# Altium schematic symbol library lib.SchLib: 4 symbols
Pins are listed as number, name and electrical type; pins without a type are passive.

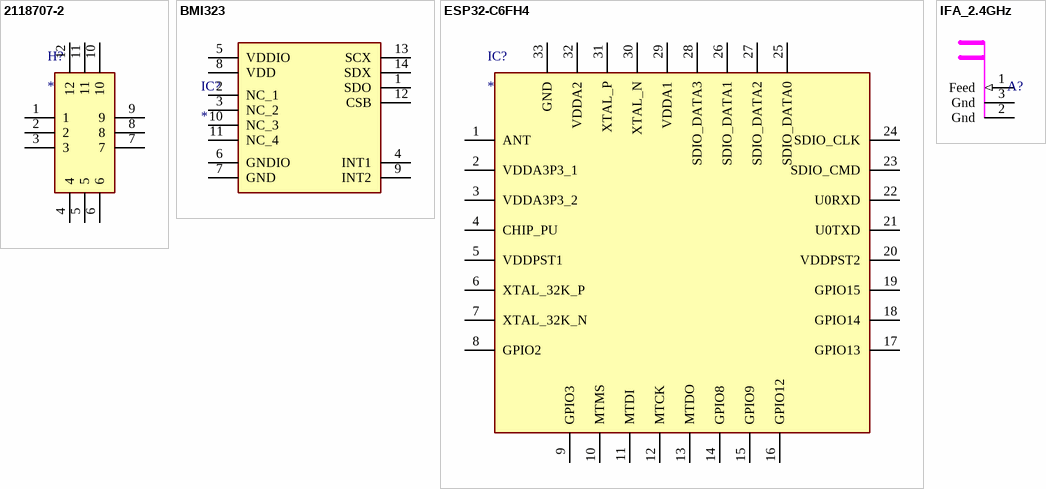
[diagram p0: symbols 2118707-2 to IFA_2.4GHz]

## 2118707-2
designator H?
Hardware; Manufacturer_Name: TE Connectivity; Manufacturer_Part_Number: 2118707-2; Datasheet Link: https://www.te.com/commerce/DocumentDelivery/DDEController?Action=srchrtrv&DocNm=2118707&DocType=Customer+Drawing&DocLang=English; Height: 3.6mm; Mouser Part Number: 571-2118707-2; Mouser Price/Stock: https://www.mouser.co.uk/ProductDetail/TE-Connectivity/2118707-2?qs=u4fy%2FsgLU9NoXZXtwsPxvA%3D%3D; Arrow Part Number: 2118707-2; Arrow Price/Stock: https://www.arrow.com/en/products/2118707-2/te-connectivity?region=nac
footprint 21187072
pins: 1, 2, 3, 4, 5, 6, 7, 8, 9, 10, 11, 12

## BMI323
designator IC?
Integrated Circuit; Manufacturer_Name: BOSCH; Manufacturer_Part_Number: BMI323; Description: 3.0 SHUTTLE BOARD DEV KIT BMI323; Datasheet Link: https://www.bosch-sensortec.com/media/boschsensortec/downloads/datasheets/bst-bmi323-ds000.pdf; Height: 0.87mm; Mouser Part Number: 262-BMI323; Mouser Price/Stock: https://www.mouser.co.uk/ProductDetail/Bosch-Sensortec/BMI323?qs=By6Nw2ByBD3%2FE1v0UqNQPQ%3D%3D; Arrow Part Number: BMI323; Arrow Price/Stock: https://www.arrow.com/en/products/bmi323/bosch?region=nac
footprint BMI323
pins: 1 SDO, 2 NC_1, 3 NC_2, 4 INT1, 5 VDDIO, 6 GNDIO, 7 GND, 8 VDD, 9 INT2, 10 NC_3, 11 NC_4, 12 CSB, 13 SCX, 14 SDX

## ESP32-C6FH4
designator IC?
Integrated Circuit; Manufacturer_Name: Espressif Systems; Manufacturer_Part_Number: ESP32-C6FH4; Datasheet Link: https://www.mouser.ch/ProductDetail/Espressif-Systems/ESP32-C6FH4?qs=sGAEpiMZZMu3sxpa5v1qriveB5Rxa06Y9iJOmwW58jU%3D; Height: 0.9mm; Mouser Part Number: 356-ESP32-C6FH4; Mouser Price/Stock: https://www.mouser.co.uk/ProductDetail/Espressif-Systems/ESP32-C6FH4?qs=Imq1NPwxi77uZvg%252BuAIiXA%3D%3D
footprint QFN50P500X500X90-33N
pins: 1 ANT, 2 VDDA3P3_1, 3 VDDA3P3_2, 4 CHIP_PU, 5 VDDPST1, 6 XTAL_32K_P, 7 XTAL_32K_N, 8 GPIO2, 9 GPIO3, 10 MTMS, 11 MTDI, 12 MTCK, 13 MTDO, 14 GPIO8, 15 GPIO9, 16 GPIO12, 17 GPIO13, 18 GPIO14, 19 GPIO15, 20 VDDPST2, 21 U0TXD, 22 U0RXD, 23 SDIO_CMD, 24 SDIO_CLK, 25 SDIO_DATA0, 26 SDIO_DATA1, 27 SDIO_DATA2, 28 SDIO_DATA3, 29 VDDA1, 30 XTAL_N, 31 XTAL_P, 32 VDDA2, 33 GND

## IFA_2.4GHz
designator A?, comment Inverted F Antenna 2.4GHz  (value not drawn)  (net tie, no BOM)
footprint IFA_2.4GHz
pins: 1 Feed (in), 2 Gnd (power), 3 Gnd (power)